# Altium footprint library C2Sv0.1.PcbLib: 26 footprints (part 2 of 2)
Each footprint in its own frame and in the unit in brackets; x right, y up, seen from the top. Pads: shape width x height; smd on the part's side, far side on the other; paste and mask are expansions set on the pad; w line width, h text height; cw(c..) or ccw(c..) is an arc to the next point about the centre after c.
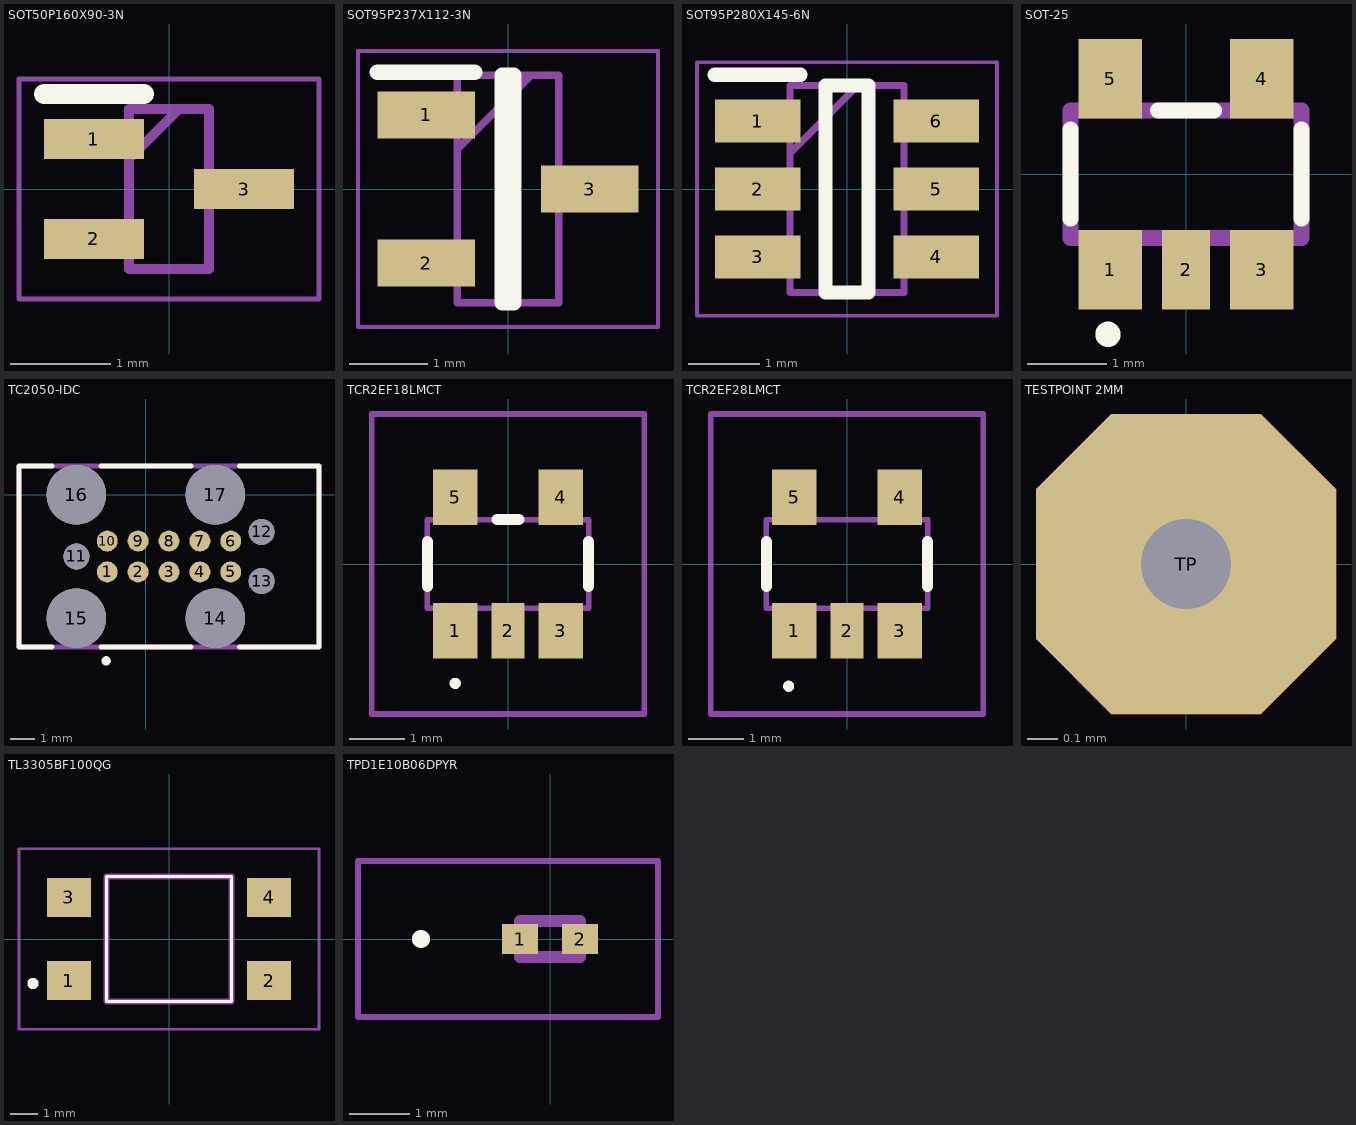
[diagram p1: the footprints below, top view; thin cyan lines are the x and y axes]

## SOT50P160X90-3N [mm]
pads (3):
  rect 1x0.4 smd: 1(-0.75,0.5) 2(-0.75,-0.5) 3(0.75,0)
Top Overlay:
  lines w0.2: -1.25,0.95 -0.25,0.95
Mechanical 13:
  lines w0.1: -0.4,0.3 0.1,0.8 ; -0.4,-0.8 0.4,-0.8 0.4,0.8 -0.4,0.8 -0.4,-0.8
Mechanical 15:
  lines w0.05: -1.5,-1.1 1.5,-1.1 1.5,1.1 -1.5,1.1 -1.5,-1.1
3D body "DMG1012T.stp": height 0.9, standoff 0, extent -0.8,-0.8 0.8,0.8

## SOT95P237X112-3N [mm]
pads (3):
  rect 1.25x0.6 smd: 1(-1.05,0.95) 2(-1.05,-0.95) 3(1.05,0)
Top Overlay:
  lines w0.2: -1.675,1.5 -0.425,1.5 ; -0.075,-1.46 -0.075,1.46 0.075,1.46 0.075,-1.46 -0.075,-1.46
Mechanical 13:
  lines w0.1: -0.65,0.51 0.3,1.46 ; -0.65,-1.46 -0.65,1.46 0.65,1.46 0.65,-1.46 -0.65,-1.46
Mechanical 15:
  lines w0.05: -1.925,-1.77 -1.925,1.77 1.925,1.77 1.925,-1.77 -1.925,-1.77
3D body "TMP235A4DBZR.stp": height 1, standoff 0, extent -1.27,-1.46 1.27,1.46

## SOT95P280X145-6N [mm]
pads (6):
  rect 1.2x0.6 smd: 1(-1.25,0.95) 2(-1.25,0) 3(-1.25,-0.95) 4(1.25,-0.95) 5(1.25,0) 6(1.25,0.95)
Top Overlay:
  lines w0.2: -1.85,1.6 -0.65,1.6 ; -0.3,-1.45 -0.3,1.45 0.3,1.45 0.3,-1.45 -0.3,-1.45
Mechanical 13:
  lines w0.1: -0.8,0.5 0.15,1.45 ; -0.8,-1.45 -0.8,1.45 0.8,1.45 0.8,-1.45 -0.8,-1.45
Mechanical 15:
  lines w0.05: -2.1,-1.775 -2.1,1.775 2.1,1.775 2.1,-1.775 -2.1,-1.775
3D body "INA181A2IDBVR.stp": height 1.2, standoff 0, extent -1.4,-1.45 1.4,1.45

## SOT-25 [mm]
pads (5):
  rect 0.8x1 smd: 1(-0.95,-1.2) 3(0.95,-1.2) 4(0.95,1.2) 5(-0.95,1.2)
  rect 0.6x1 smd: 2(0,-1.2)
Top Overlay:
  circle w0.2: c-0.981,-2.012 r0.059
  lines w0.2: -1.45,-0.56 -1.45,0.563 ; -0.35,0.799 0.35,0.799 ; 1.45,-0.56 1.45,0.563
Mechanical 13:
  lines w0.2: -1.45,-0.8 1.45,-0.8 1.45,0.8 -1.45,0.8 -1.45,-0.8
3D body "TCR2EF33,LM_CT.stp": height 1.4, standoff 0, extent -1.45,-1.44 1.45,1.36

## TC2050-IDC [mil]
pads (17):
  round 34 smd: 1(-62.5,-125) 2(-12.5,-125) 3(37.5,-125) 4(87.5,-125) 5(137.5,-125) 6(137.5,-75) 7(87.5,-75) 8(37.5,-75) 9(-12.5,-75) 10(-62.5,-75)
  round 42 hole 42 unplated: 11(-112.5,-100) 12(187.5,-60.04) 13(187.5,-139.96)
  round 96.5 hole 96.5 unplated: 14(112.5,-200) 15(-112.5,-200) 16(-112.5,0) 17(112.5,0)
Top Overlay:
  circle w7.87: c-64.35,-268.98 r3.58
  lines w7.87: -151.75,-246.75 -205.41,-246.75 -205.41,46.75 -151.75,46.75 ; -72.93,-246.75 72.93,-246.75 ; -72.93,46.75 72.93,46.75 ; 151.59,-246.75 280.41,-246.75 280.41,46.75 151.59,46.75
Mechanical 13:
  lines w7.87: -205.41,-246.75 280.41,-246.75 280.41,46.75 -205.41,46.75 -205.41,-246.75
3D body "TC2050-IDC.stp": height 8190.7, standoff -17.96, extent -304.57,-260.24 379.68,41.65

## TCR2EF18LMCT [mm]
pads (5):
  rect 0.8x1 smd: 1(-0.95,-1.2) 3(0.95,-1.2) 4(0.95,1.2) 5(-0.95,1.2)
  rect 0.6x1 smd: 2(0,-1.2)
Top Overlay:
  lines w0.1: -0.95,-2.2 ccw(c-0.95,-2.15) -0.95,-2.1 ccw(c-0.95,-2.15) -0.95,-2.2
  lines w0.2: -1.45,-0.4 -1.45,0.4 ; -0.2,0.8 0.2,0.8 ; 1.45,-0.4 1.45,0.4
Mechanical 13:
  lines w0.1: -1.45,-0.8 -1.45,0.8 1.45,0.8 1.45,-0.8 -1.45,-0.8
Mechanical 15:
  lines w0.1: -2.45,-2.7 -2.45,2.7 2.45,2.7 2.45,-2.7 -2.45,-2.7
3D body "TCR2EF18,LM_CT.stp": height 1.5, standoff 0, extent -1.45,-0.8 1.45,0.8

## TCR2EF28LMCT [mm]
pads (5):
  rect 0.8x1 smd: 1(-0.95,-1.2) 3(0.95,-1.2) 4(0.95,1.2) 5(-0.95,1.2)
  rect 0.6x1 smd: 2(0,-1.2)
Top Overlay:
  lines w0.1: -1.1,-2.2 ccw(c-1.05,-2.2) -1,-2.2 ccw(c-1.05,-2.2) -1.1,-2.2
  lines w0.2: -1.45,-0.4 -1.45,0.4 ; 1.45,-0.4 1.45,0.4
Mechanical 13:
  lines w0.1: -1.45,-0.8 -1.45,0.8 1.45,0.8 1.45,-0.8 -1.45,-0.8
Mechanical 15:
  lines w0.1: -2.45,-2.7 -2.45,2.7 2.45,2.7 2.45,-2.7 -2.45,-2.7
3D body "TCR2EF28,LM_CT.stp": height 1.5, standoff 0, extent -1.45,-0.8 1.45,0.8

## TESTPOINT 2MM [mm]
pads (1):
  oct 1x1 hole 0.3: TP(0,0)
Top Layer:
  region: -0.25,-0.5 -0.5,-0.25 -0.5,0.25 -0.25,0.5 0.25,0.5 0.5,0.25 0.5,-0.25 0.25,-0.5
Bottom Layer:
  region: -0.25,-0.5 -0.5,-0.25 -0.5,0.25 -0.25,0.5 0.25,0.5 0.5,0.25 0.5,-0.25 0.25,-0.5

## TL3305BF100QG [mm]
pads (4):
  rect 1.6x1.4 smd: 1(-3.6,-1.5) 2(3.6,-1.5) 3(-3.6,1.5) 4(3.6,1.5)
Top Overlay:
  lines w0.1: -2.25,-2.25 2.25,-2.25 2.25,2.25 -2.25,2.25 -2.25,-2.25
  lines w0.2: -5,-1.6 cw(c-4.9,-1.6) -4.8,-1.6 cw(c-4.9,-1.6) -5,-1.6
Mechanical 13:
  lines w0.2: -2.25,-2.25 2.25,-2.25 2.25,2.25 -2.25,2.25 -2.25,-2.25
Mechanical 15:
  lines w0.1: -5.4,-3.25 5.4,-3.25 5.4,3.25 -5.4,3.25 -5.4,-3.25
3D body "TL3305BF100QG.stp": height 4.9, standoff -0.1, extent -3.75,-2.25 3.75,2.25

## TPD1E10B06DPYR [mm]
pads (2):
  rect 0.6x0.5 smd: 1(-0.5,0) 2(0.5,0)
Top Overlay:
  lines w0.2: -2.2,0 ccw(c-2.15,0) -2.1,0 ; -2.2,0 cw(c-2.15,0) -2.1,0 ; -2.2,0 ccw(c-2.15,0) -2.1,0
Mechanical 13:
  lines w0.2: -0.5,-0.3 0.5,-0.3 0.5,0.3 -0.5,0.3 -0.5,-0.3
Mechanical 15:
  lines w0.1: -3.2,-1.3 1.8,-1.3 1.8,1.3 -3.2,1.3 -3.2,-1.3
3D body "TPD1E10B06DPYR.stp": height 0.38, standoff 0, extent -0.5,-0.3 0.5,0.3